# Altium schematic symbol library Stepper.SchLib: 1 symbol
Pins are listed as number, name and electrical type; pins without a type are passive.

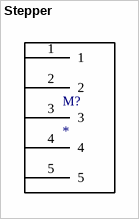
[diagram p0: symbol Stepper]

## Stepper
designator M?
pins: 1, 2, 3, 4, 5